# Altium integrated library 150060RV75240_Altium_WL-SBCC_rev19a.IntLib: 1 symbol
Pins are listed as number, name and electrical type; pins without a type are passive.

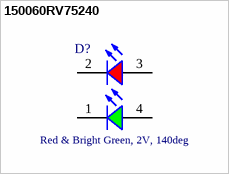
[diagram p0: symbol 150060RV75240]

## 150060RV75240
designator D?, comment Red & Bright Green, 2V, 140deg
WL-SBCC SMT Bi-color Chip LED Compact, size 0603, Red & Bright Green, 2V, 140deg; Part Number: 150060RV75240; Peak Wavelength typ.: 630nm@Red, 572nm@Bright Green; Dominant Wavelength typ.: 625nm@Red, 570nm@Bright Green; Luminous Intensity typ.: 230mcd@Red, 90mcd@Bright Green; Chip Technology: AlInGaP; ComponentLink1Description: Manufacturer; ComponentLink1URL: http://www.we-online.de; ComponentLink2Description: Datasheet; ComponentLink2URL: https://katalog.we-online.de/led/datasheet/150060RV75240.pdf; Published Date: June 2019; Publisher: Wurth Elektronik; Size: 0603; Forward Voltage typ.: 2V; Viewing Angle typ.: 140deg; Operating Temperature: -40 to +85degC; Emitting Color: Red & Bright Green; Mounting Technology: SMT; Packaging: Tape and Reel
footprint WL-SBCC_0603
pins: 1 K, 2 K, 3 A, 4 A